# Altium footprint library Molex Microfit 3.0 12x1.PcbLib: 1 footprints
Each footprint in its own frame and in the unit in brackets; x right, y up, seen from the top. Pads: shape width x height; smd on the part's side, far side on the other; paste and mask are expansions set on the pad; w line width, h text height; cw(c..) or ccw(c..) is an arc to the next point about the centre after c.
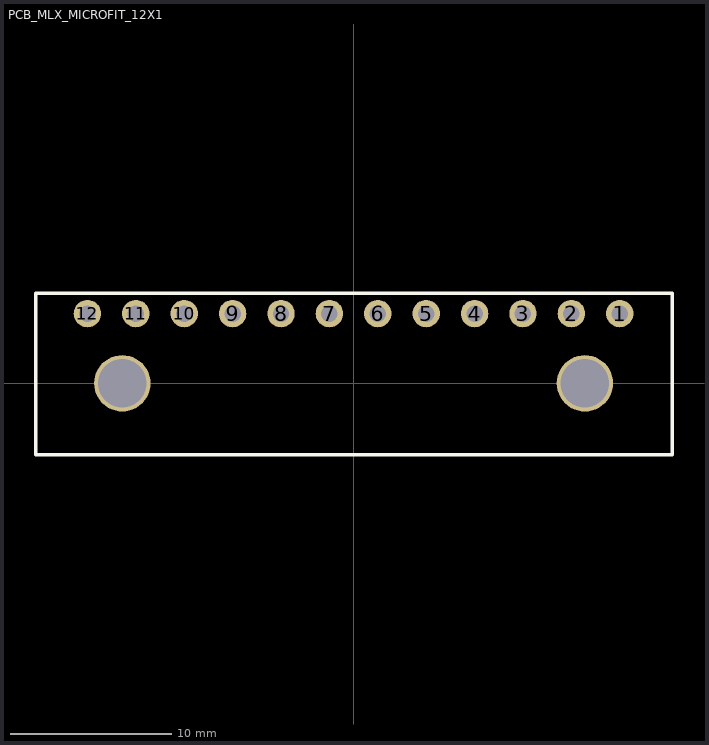
[diagram p0: the footprint, top view; thin cyan lines are the x and y axes]

## PCB_MLX_MICROFIT_12X1 [mm]
height 5.57
pads (14):
  round 1.7 hole 1.02: 1(16.5,4.32) 2(13.5,4.32) 3(10.5,4.32) 4(7.5,4.32) 5(4.5,4.32) 6(1.5,4.32) 7(-1.5,4.32) 8(-4.5,4.32) 9(-7.5,4.32) 10(-10.5,4.32) 11(-13.5,4.32) 12(-16.5,4.32)
  round 3.5 hole 3: ""(-14.34,0) ""(14.34,0)
Top Overlay:
  lines w0.2: -19.7,-4.425 -19.7,5.575 19.75,5.575 19.75,-4.425 -19.7,-4.425
3D body "MLX_MICROFIT_12X1.stp": height 5.64, standoff -3.27, extent -19.8,-4.525 19.85,5.375